# Altium footprint library RayPCB20210502.PcbLib: 211 footprints (part 6 of 14)
Each footprint in its own frame and in the unit in brackets; x right, y up, seen from the top. Pads: shape width x height; smd on the part's side, far side on the other; paste and mask are expansions set on the pad; w line width, h text height; cw(c..) or ccw(c..) is an arc to the next point about the centre after c.
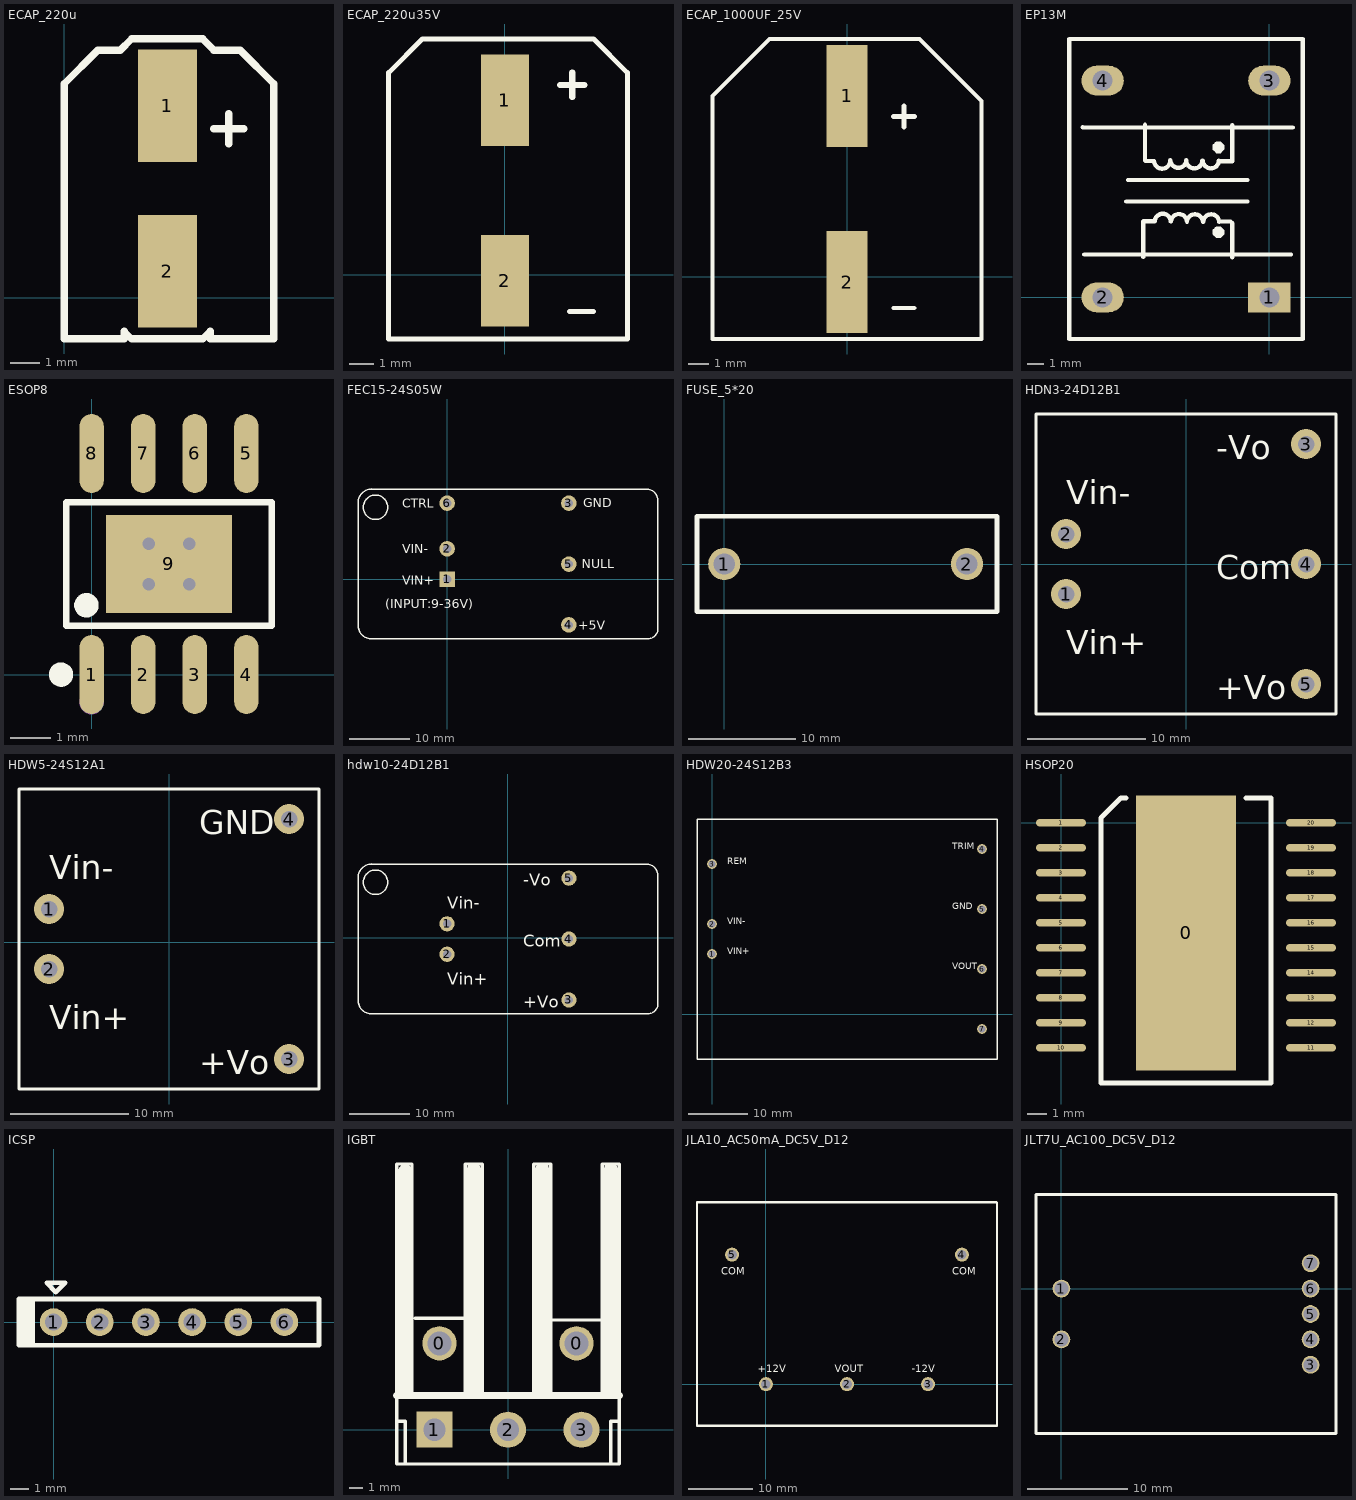
[diagram p5: the footprints below, top view; thin cyan lines are the x and y axes]

## ECAP_220u [mm] "220u/16V_SMT"
pads (2):
  rect 2x3.8 smd: 1(3.5,6.5) 2(3.5,0.9)
Top Overlay:
  lines w0.254: 0,5.08 0,7.239 1.143,8.382 1.905,8.382 2.286,8.763 4.699,8.763 5.08,8.382 5.969,8.382 7.112,7.239 7.112,-1.397 4.953,-1.397 4.953,-1.143 4.699,-1.397 2.286,-1.397 2.032,-1.143 2.032,-1.397 0,-1.397 0,5.207 ; 5.08,5.715 6.096,5.715 ; 5.588,5.207 5.588,6.223

## ECAP_220u35V [mm] "220u/35V"
pads (2):
  rect 2x3.8 smd: 1(0,7.239) 2(0,-0.254)
Top Overlay:
  lines w0.203: 2.667,-1.524 3.683,-1.524 ; -4.826,-2.667 5.08,-2.667 5.08,8.382 3.683,9.779 -3.429,9.779 -4.826,8.382 -4.826,-2.667
  lines w0.254: 2.286,7.874 3.302,7.874 ; 2.794,7.366 2.794,8.382

## ECAP_1000UF_25V [mm]
pads (2):
  rect 2x5 smd: 1(0,8.89) 2(0,-0.254)
Top Overlay:
  lines w0.203: 2.286,-1.524 3.302,-1.524 ; -6.604,-3.048 6.604,-3.048 6.604,8.636 3.556,11.684 -3.81,11.684 -6.604,8.89 -6.604,-3.048
  lines w0.254: 2.286,7.874 3.302,7.874 ; 2.794,7.366 2.794,8.382

## EP13M [mm] "共模电感"
pads (4):
  rect 2.54x1.8 hole 1.2: 1(0,0)
  oval 2.54x1.8 hole 1.2: 2(-10,0) 3(0.003,13) 4(-10,13)
Top Overlay:
  lines w0.254: -11.2,10.2 1.4,10.184 ; -11.1,2.564 1.3,2.564 ; -8.587,5.743 -1.303,5.743 ; -8.485,7.042 -1.303,7.042 ; -7.562,2.426 -7.562,4.546 -7.544,4.563 -6.878,4.563 cw(c-6.398,4.536) -5.919,4.554 ; -7.459,10.36 -7.459,8.205 -7.434,8.18 -6.913,8.18 ccw(c-6.433,8.198) -5.954,8.171 ; -5.938,8.231 ccw(c-5.459,8.25) -4.98,8.222 ; -5.903,4.546 cw(c-5.424,4.519) -4.944,4.537 ; -4.981,8.197 ccw(c-4.501,8.215) -4.022,8.188 ; -4.945,4.529 cw(c-4.466,4.501) -3.987,4.52 ; -3.989,8.197 ccw(c-3.509,8.215) -3.03,8.188 ; -3.971,4.529 cw(c-3.491,4.501) -3.012,4.52 ; -3.27,3.896 -2.911,3.896 -2.825,3.982 -2.808,3.982 ; -3.27,8.992 -2.911,8.992 -2.825,9.077 -2.808,9.077 ; -2.945,4.546 -2.329,4.546 -2.227,4.443 -2.227,2.4 ; -2.945,8.171 -2.227,8.171 -2.227,10.326 ; -2.808,3.982 -2.962,4.136 -3.15,4.136 -3.27,4.016 -3.27,3.811 -3.133,3.674 -2.962,3.674 -2.808,3.828 -2.808,3.982 ; -2.808,9.077 -2.962,9.231 -3.15,9.231 -3.27,9.111 -3.27,8.906 -3.133,8.769 -2.962,8.769 -2.808,8.923 -2.808,9.077 ; -12,-2.5 2,-2.5 2,15.5 -12,15.5 -12,-2.5

## ESOP8 [mm]
pads (9):
  oval 0.602x1.941 smd: 1(0,0) 2(1.27,0) 3(2.54,0) 4(3.81,0) 5(3.81,5.441) 6(2.54,5.441) 7(1.27,5.441) 8(0,5.441)
  rect 3.098x2.41 smd: 9(1.905,2.72)
via 1.405,3.22 diameter 0.61 hole 0.305
via 2.405,3.22 diameter 0.61 hole 0.305
via 1.405,2.22 diameter 0.61 hole 0.305
via 2.405,2.22 diameter 0.61 hole 0.305
Top Overlay:
  circle w0.3: c-0.127,1.704 r0.15
  circle w0.3: c-0.753,0 r0.15
  lines w0.152: -0.621,1.199 -0.621,4.242 4.431,4.242 4.431,1.199 -0.621,1.199
Mechanical 15:
  circle w0.3: c0,-0.68 r0.15

## FEC15-24S05W [mm] "24V DC -5V DC"
pads (6):
  rect 2.6x2.6 hole 1.4: 1(0,0)
  round 2.6 hole 1.4: 2(0,5.08) 3(20.32,12.7) 4(20.301,-7.62) 5(20.32,2.54) 6(0,12.7)
Top Overlay:
  circle w0.254: c-11.942,12.011 r2.036
  lines w0.254: -12.7,-9.96 -12.446,-9.96 ; -12.573,15.059 -12.554,15.04 ; -12.554,15.04 ccw(c-12.573,12.754) -14.859,12.773 -14.859,-7.801 ccw(c-12.573,-7.674) -12.446,-9.96 ; -12.554,15.04 33.401,15.04 cw(c33.265,13.163) 35.141,13.027 35.179,12.989 35.179,-8.055 cw(c33.401,-8.182) 33.528,-9.96 -11.938,-9.96 -12.446,-9.96
  text "VIN+" at -7.493,-0.889 h1.52
  text "VIN-" at -7.493,4.318 h1.52
  text "+5V" at 21.844,-8.436 h1.52
  text "GND" at 22.733,12.011 h1.52
  text "CTRL" at -7.493,11.938 h1.52
  text "NULL" at 22.479,1.851 h1.52
  text "(INPUT:9-36V)" at -10.287,-4.826 h1.52

## FUSE_5*20 [mm]
pads (2):
  round 3 hole 2: 1(0,0) 2(22.6,0)
Top Overlay:
  lines w0.457: -2.54,-4.445 -2.54,4.445 25.4,4.445 25.4,-4.445 -2.54,-4.445

## HDN3-24D12B1 [mil] "24V-+-12V 3W"
pads (5):
  round 100 hole 55: 1(-400,-100) 2(-400,100) 3(400,400) 4(400,0) 5(400,-400)
Top Overlay:
  lines w10: -500,-500 500,-500 500,500 -500,500 -500,-500
  text "Vin+" at -400,-300 h80
  text "Vin-" at -400,200 h80
  text "-Vo" at 100,350 h80
  text "+Vo" at 100,-450 h80
  text "Com" at 100,-50 h80

## HDW5-24S12A1 [mil]
pads (4):
  round 100 hole 55: 1(-400,110) 2(-400,-90) 3(400,-390) 4(400,410)
Top Overlay:
  lines w10: -500,-490 -500,510 500,510 500,-490 -500,-490
  text "+Vo" at 100,-440 h80
  text "GND" at 100,360 h80
  text "Vin-" at -400,210 h80
  text "Vin+" at -400,-290 h80

## hdw10-24D12B1 [mil]
pads (5):
  round 100 hole 55: 1(-400,90) 2(-400,-110) 3(400,-410) 4(400,-10) 5(400,390)
Top Overlay:
  circle w10: c-870.16,362.87 r80.16
  lines w10: -900,-502.13 -890,-502.13 ; -895,482.87 -894.25,482.13 ; -894.25,482.13 ccw(c-895,392.13) -985,392.87 -985,-417.13 ccw(c-895,-412.13) -890,-502.13 ; -894.25,482.13 915,482.13 cw(c909.63,408.25) 983.5,402.87 985,401.38 985,-427.13 cw(c915,-432.13) 920,-502.13 -870,-502.13 -890,-502.13
  text "Vin+" at -400,-310 h80
  text "Vin-" at -400,190 h80
  text "-Vo" at 100,340 h80
  text "+Vo" at 100,-460 h80
  text "Com" at 100,-60 h80

## HDW20-24S12B3 [mil]
pads (7):
  round 65 hole 46: 1(0,400) 2(0,600) 3(0,1000) 4(1800,1100) 5(1800,700) 6(1800,300) 7(1800,-100)
Top Overlay:
  lines w10: -100,-300 -100,1300 1900,1300 1900,-300 -100,-300
  text "TRIM" at 1600,1100 h45
  text "GND" at 1600,700 h45
  text "VOUT" at 1600,300 h45
  text "REM" at 100,1000 h45
  text "VIN-" at 100,600 h45
  text "VIN+" at 100,400 h45

## HSOP20 [mil]
pads (21):
  rect 200x550 smd: 0(250,-220)
  oval 100x15 smd: 1(0,0) 2(0,-50) 3(0,-100) 4(0,-150) 5(0,-200) 6(0,-250) 7(0,-300) 8(0,-350) 9(0,-400) 10(0,-450) 11(500,-450) 12(500,-400) 13(500,-350) 14(500,-300) 15(500,-250) 16(500,-200) 17(500,-150) 18(500,-100) 19(500,-50) 20(500,0)
Top Overlay:
  lines w10: 130,50 120,50 80,10 80,-520 420,-520 420,50 370,50

## ICSP [mil]
pads (6):
  round 60 hole 37: 1(0,0) 2(100,0) 3(200,0) 4(300,0) 5(400,0) 6(500,0)
Top Overlay:
  lines w10: -75,-20 -45,-50 -45,50 ; -75,25 -50,50 -50,-50 ; -67.45,32.55 -67.45,-27.55 -65,-30 ; -65,-50 -65,50 ; -65,-40 -55,-50 ; -62.77,37.23 -62.77,-32.23 -61.21,-33.79 ; -55,-30 -55,35 ; -75,-50 575,-50 575,50 -75,50 -75,-50 ; -15,85 25,85 5,65 -15,85

## IGBT [mil]
pads (5):
  round 100 hole 70: 0(-200,251.97) 0(200,251.97)
  rect 105x105 hole 65: 1(-214.57,0)
  round 105 hole 65: 2(0,0) 3(214.57,0)
Top Overlay:
  lines w10: -325,25 -300,25 -300,-100 ; -280,100 -280,775 -325,775 -325,100 -325,-100 325,-100 325,100 325,775 275,775 275,105 280,100 ; -270,325 -125,325 ; -175,100 75,100 75,775 125,775 125,110 ; -125,100 -125,775 -75,775 -75,100 ; 125,320 275,320 ; 300,-100 300,25 325,25
  lines w20: -325,100 0,100 325,100
  lines w40: -300,115 -300,755 ; -100,115 -100,760 ; 100,110 100,760 ; 300,115 300,760

## JLA10_AC50mA_DC5V_D12 [mm]
pads (5):
  round 2.2 hole 1.5: 1(0,0) 2(12.7,0) 3(25.4,0) 4(30.7,20.3) 5(-5.3,20.3)
Top Overlay:
  lines w0.381: -10.8,28.5 36.125,28.5 36.2,28.425 36.2,-6.5 -10.8,-6.5 -10.8,28.49 -10.795,28.495
  text "+12V" at -1.27,1.905 h1.14
  text "-12V" at 22.86,1.905 h1.14
  text "VOUT" at 10.795,1.905 h1.14
  text "COM" at -6.985,17.145 h1.14
  text "COM" at 29.21,17.145 h1.14

## JLT7U_AC100_DC5V_D12 [mil]
pads (7):
  round 70 hole 55: 1(0,0) 2(0,-200) 3(980,-300) 4(980,-200) 5(980,-100) 6(980,0) 7(980,100)
Top Overlay:
  lines w10: -100,-570 1080,-570 1080,370 -100,370 -100,-570